# Altium integrated library Altera MAX 7000B.IntLib: 128 symbols (part 9 of 9)
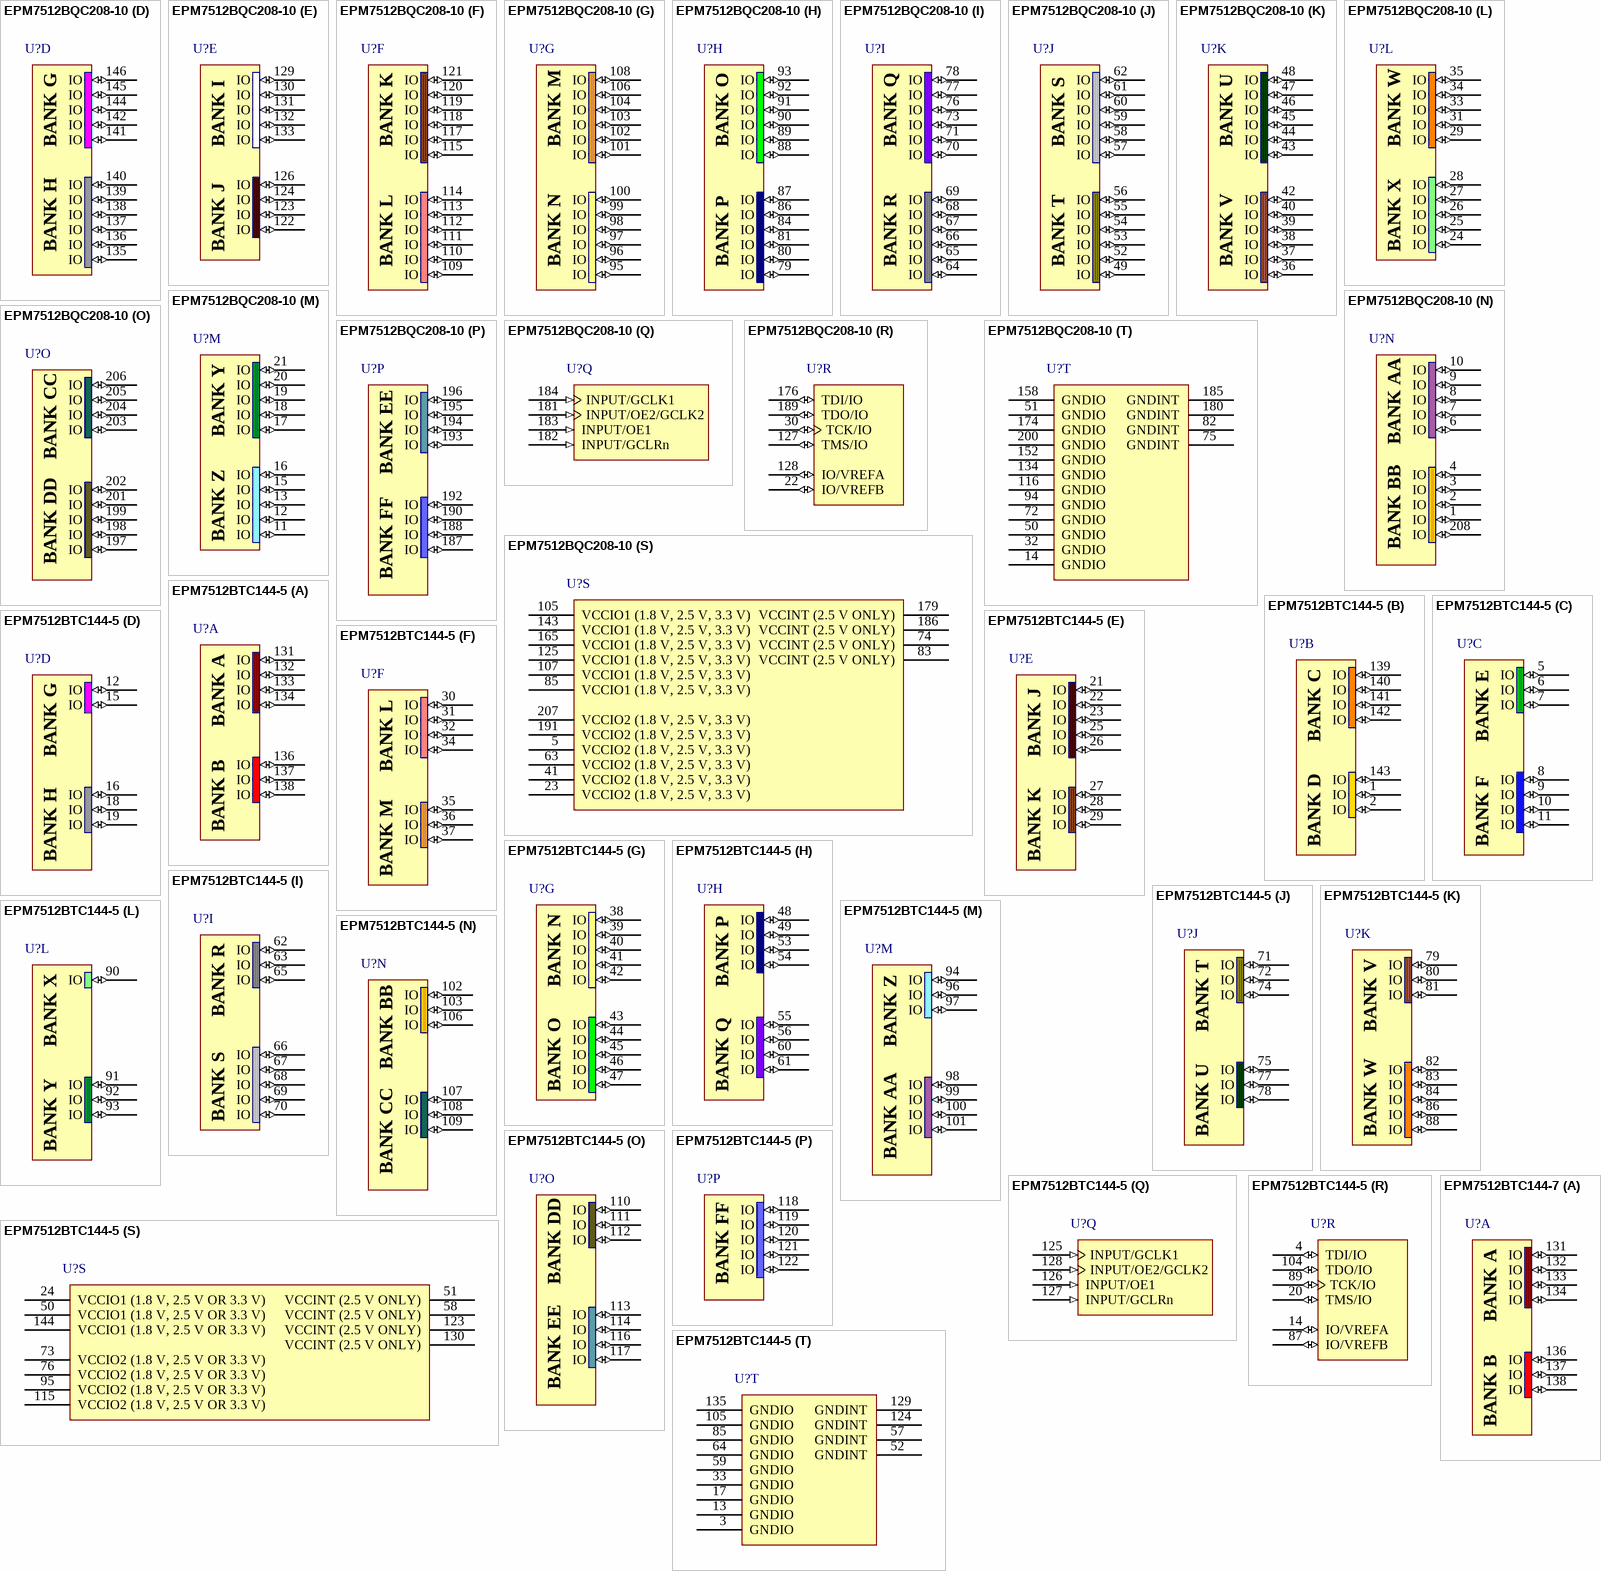
[diagram p54: symbols EPM7512BQC208-10 to EPM7512BTC144-7]

## EPM7512BQC208-10
designator U?
Max 7000B 2.5V CPLD, 512 Macrocells, 208-Pin PQFP, Speed Grade 10, Commercial Grade; Published: 23-Sep-2002; LatestRevisionDate: 13-Apr-2006; LatestRevisionNote: IPC-7351 Footprint Added.; DatasheetVersion: ver3.5, Sep-2005; PackageVersion: ver14.3, Jul-2006; PackageReference: PQFP208; Publisher: Altium Limited; PackageDescription: 208-Pin Plastic Quad Flat Pack (PQFP208); Code_JEDEC: MS-029-FA-1; ComponentLink1Description: Manufacturer Link; ComponentLink1URL: http://www.altera.com/products/devices/max7k/m7k-index.html; ComponentLink2Description: Datasheet; ComponentLink2URL: http://www.altera.com/literature/ds/m7000b.pdf; ComponentLink3Description: Packaging Specification; ComponentLink3URL: http://www.altera.com/literature/ds/dspkg.pdf
footprint PQFP208_N (Shrink QFP, 208-Leads, Body 28x28mm, Pitch 0.5mm, IPC Medium Density)
footprint PQFP208_L (Shrink QFP, 208-Leads, Body 28x28mm, Pitch 0.5mm, IPC High Density)
footprint PQFP208_M (Shrink QFP, 208-Leads, Body 28x28mm, Pitch 0.5mm, IPC Low Density)
3D model EPM7512B-PQFP208 (208-Pin Plastic Quad Flat Pack (PQFP208))
signal-integrity model 7kb (MAX 7000B)
part A pins: 169 IO (io), 170 IO (io), 171 IO (io), 172 IO (io), 173 IO (io), 175 IO (io), 177 IO (io), 178 IO (io)
part B pins: 159 IO (io), 160 IO (io), 161 IO (io), 162 IO (io), 163 IO (io), 164 IO (io), 166 IO (io), 167 IO (io), 168 IO (io)
part C pins: 147 IO (io), 148 IO (io), 149 IO (io), 150 IO (io), 151 IO (io), 153 IO (io), 154 IO (io), 155 IO (io), 156 IO (io), 157 IO (io)
part D pins: 135 IO (io), 136 IO (io), 137 IO (io), 138 IO (io), 139 IO (io), 140 IO (io), 141 IO (io), 142 IO (io), 144 IO (io), 145 IO (io), 146 IO (io)
part E pins: 122 IO (io), 123 IO (io), 124 IO (io), 126 IO (io), 129 IO (io), 130 IO (io), 131 IO (io), 132 IO (io), 133 IO (io)
part F pins: 109 IO (io), 110 IO (io), 111 IO (io), 112 IO (io), 113 IO (io), 114 IO (io), 115 IO (io), 117 IO (io), 118 IO (io), 119 IO (io), 120 IO (io), 121 IO (io)
part G pins: 95 IO (io), 96 IO (io), 97 IO (io), 98 IO (io), 99 IO (io), 100 IO (io), 101 IO (io), 102 IO (io), 103 IO (io), 104 IO (io), 106 IO (io), 108 IO (io)
part H pins: 79 IO (io), 80 IO (io), 81 IO (io), 84 IO (io), 86 IO (io), 87 IO (io), 88 IO (io), 89 IO (io), 90 IO (io), 91 IO (io), 92 IO (io), 93 IO (io)
part I pins: 64 IO (io), 65 IO (io), 66 IO (io), 67 IO (io), 68 IO (io), 69 IO (io), 70 IO (io), 71 IO (io), 73 IO (io), 76 IO (io), 77 IO (io), 78 IO (io)
part J pins: 49 IO (io), 52 IO (io), 53 IO (io), 54 IO (io), 55 IO (io), 56 IO (io), 57 IO (io), 58 IO (io), 59 IO (io), 60 IO (io), 61 IO (io), 62 IO (io)
part K pins: 36 IO (io), 37 IO (io), 38 IO (io), 39 IO (io), 40 IO (io), 42 IO (io), 43 IO (io), 44 IO (io), 45 IO (io), 46 IO (io), 47 IO (io), 48 IO (io)
part L pins: 24 IO (io), 25 IO (io), 26 IO (io), 27 IO (io), 28 IO (io), 29 IO (io), 31 IO (io), 33 IO (io), 34 IO (io), 35 IO (io)
part M pins: 11 IO (io), 12 IO (io), 13 IO (io), 15 IO (io), 16 IO (io), 17 IO (io), 18 IO (io), 19 IO (io), 20 IO (io), 21 IO (io)
part N pins: 1 IO (io), 2 IO (io), 3 IO (io), 4 IO (io), 6 IO (io), 7 IO (io), 8 IO (io), 9 IO (io), 10 IO (io), 208 IO (io)
part O pins: 197 IO (io), 198 IO (io), 199 IO (io), 201 IO (io), 202 IO (io), 203 IO (io), 204 IO (io), 205 IO (io), 206 IO (io)
part P pins: 187 IO (io), 188 IO (io), 190 IO (io), 192 IO (io), 193 IO (io), 194 IO (io), 195 IO (io), 196 IO (io)
part Q pins: 181 INPUT/OE2/GCLK2 (in), 182 INPUT/GCLRn (in), 183 INPUT/OE1 (in), 184 INPUT/GCLK1 (in)
part R pins: 22 IO/VREFB (io), 30 TCK/IO (io), 127 TMS/IO (io), 128 IO/VREFA (io), 176 TDI/IO (io), 189 TDO/IO (io)
part S pins: 5 VCCIO2 (1.8 V, 2.5 V, 3.3 V) (power), 23 VCCIO2 (1.8 V, 2.5 V, 3.3 V) (power), 41 VCCIO2 (1.8 V, 2.5 V, 3.3 V) (power), 63 VCCIO2 (1.8 V, 2.5 V, 3.3 V) (power), 74 VCCINT (2.5 V ONLY) (power), 83 VCCINT (2.5 V ONLY) (power), 85 VCCIO1 (1.8 V, 2.5 V, 3.3 V) (power), 105 VCCIO1 (1.8 V, 2.5 V, 3.3 V) (power), 107 VCCIO1 (1.8 V, 2.5 V, 3.3 V) (power), 125 VCCIO1 (1.8 V, 2.5 V, 3.3 V) (power), 143 VCCIO1 (1.8 V, 2.5 V, 3.3 V) (power), 165 VCCIO1 (1.8 V, 2.5 V, 3.3 V) (power), 179 VCCINT (2.5 V ONLY) (power), 186 VCCINT (2.5 V ONLY) (power), 191 VCCIO2 (1.8 V, 2.5 V, 3.3 V) (power), 207 VCCIO2 (1.8 V, 2.5 V, 3.3 V) (power)
part T pins: 14 GNDIO (power), 32 GNDIO (power), 50 GNDIO (power), 51 GNDIO (power), 72 GNDIO (power), 75 GNDINT (power), 82 GNDINT (power), 94 GNDIO (power), 116 GNDIO (power), 134 GNDIO (power), 152 GNDIO (power), 158 GNDIO (power), 174 GNDIO (power), 180 GNDINT (power), 185 GNDINT (power), 200 GNDIO (power)
part A text: BANK A; BANK B
part B text: BANK C; BANK D
part C text: BANK E; BANK F
part D text: BANK G; BANK H
part E text: BANK I; BANK J
part F text: BANK K; BANK L
part G text: BANK M; BANK N
part H text: BANK O; BANK P
part I text: BANK Q; BANK R
part J text: BANK S; BANK T
part K text: BANK U; BANK V
part L text: BANK W; BANK X
part M text: BANK Y; BANK Z
part N text: BANK AA; BANK BB
part O text: BANK CC; BANK DD
part P text: BANK EE; BANK FF

## EPM7512BTC144-5
designator U?
Max 7000B 2.5V CPLD, 512 Macrocells, 144-Pin TQFP, Speed Grade 5, Commercial Grade; Published: 17-Sep-2003; LatestRevisionDate: 13-Apr-2006; LatestRevisionNote: IPC-7351 Footprint Added.; DatasheetVersion: ver3.5, Sep-2005; PackageVersion: ver14.3, Jul-2006; PackageReference: TQFP144; Publisher: Altium Limited; PackageDescription: 144-Pin Plastic Thin Quad Flat Pack (TQFP144); Code_JEDEC: MS-026-BFB; ComponentLink1Description: Manufacturer Link; ComponentLink1URL: http://www.altera.com/products/devices/max7k/m7k-index.html; ComponentLink2Description: Datasheet; ComponentLink2URL: http://www.altera.com/literature/ds/m7000b.pdf; ComponentLink3Description: Packaging Specification; ComponentLink3URL: http://www.altera.com/literature/ds/dspkg.pdf
footprint TQFP144_N (Thin QFP, 144-Leads, Body 20x20mm, Pitch 0.5mm, IPC Medium Density)
footprint TQFP144_L (Thin QFP, 144-Leads, Body 20x20mm, Pitch 0.5mm, IPC High Density)
footprint TQFP144_M (Thin QFP, 144-Leads, Body 20x20mm, Pitch 0.5mm, IPC Low Density)
3D model EPM7512B-TQFP144 (144-Pin Plastic Thin Quad Flat Pack (TQFP144))
signal-integrity model 7kb (MAX 7000B)
part A pins: 131 IO (io), 132 IO (io), 133 IO (io), 134 IO (io), 136 IO (io), 137 IO (io), 138 IO (io)
part B pins: 1 IO (io), 2 IO (io), 139 IO (io), 140 IO (io), 141 IO (io), 142 IO (io), 143 IO (io)
part C pins: 5 IO (io), 6 IO (io), 7 IO (io), 8 IO (io), 9 IO (io), 10 IO (io), 11 IO (io)
part D pins: 12 IO (io), 15 IO (io), 16 IO (io), 18 IO (io), 19 IO (io)
part E pins: 21 IO (io), 22 IO (io), 23 IO (io), 25 IO (io), 26 IO (io), 27 IO (io), 28 IO (io), 29 IO (io)
part F pins: 30 IO (io), 31 IO (io), 32 IO (io), 34 IO (io), 35 IO (io), 36 IO (io), 37 IO (io)
part G pins: 38 IO (io), 39 IO (io), 40 IO (io), 41 IO (io), 42 IO (io), 43 IO (io), 44 IO (io), 45 IO (io), 46 IO (io), 47 IO (io)
part H pins: 48 IO (io), 49 IO (io), 53 IO (io), 54 IO (io), 55 IO (io), 56 IO (io), 60 IO (io), 61 IO (io)
part I pins: 62 IO (io), 63 IO (io), 65 IO (io), 66 IO (io), 67 IO (io), 68 IO (io), 69 IO (io), 70 IO (io)
part J pins: 71 IO (io), 72 IO (io), 74 IO (io), 75 IO (io), 77 IO (io), 78 IO (io)
part K pins: 79 IO (io), 80 IO (io), 81 IO (io), 82 IO (io), 83 IO (io), 84 IO (io), 86 IO (io), 88 IO (io)
part L pins: 90 IO (io), 91 IO (io), 92 IO (io), 93 IO (io)
part M pins: 94 IO (io), 96 IO (io), 97 IO (io), 98 IO (io), 99 IO (io), 100 IO (io), 101 IO (io)
part N pins: 102 IO (io), 103 IO (io), 106 IO (io), 107 IO (io), 108 IO (io), 109 IO (io)
part O pins: 110 IO (io), 111 IO (io), 112 IO (io), 113 IO (io), 114 IO (io), 116 IO (io), 117 IO (io)
part P pins: 118 IO (io), 119 IO (io), 120 IO (io), 121 IO (io), 122 IO (io)
part Q pins: 125 INPUT/GCLK1 (in), 126 INPUT/OE1 (in), 127 INPUT/GCLRn (in), 128 INPUT/OE2/GCLK2 (in)
part R pins: 4 TDI/IO (io), 14 IO/VREFA (io), 20 TMS/IO (io), 87 IO/VREFB (io), 89 TCK/IO (io), 104 TDO/IO (io)
part S pins: 24 VCCIO1 (1.8 V, 2.5 V OR 3.3 V) (power), 50 VCCIO1 (1.8 V, 2.5 V OR 3.3 V) (power), 51 VCCINT (2.5 V ONLY) (power), 58 VCCINT (2.5 V ONLY) (power), 73 VCCIO2 (1.8 V, 2.5 V OR 3.3 V) (power), 76 VCCIO2 (1.8 V, 2.5 V OR 3.3 V) (power), 95 VCCIO2 (1.8 V, 2.5 V OR 3.3 V) (power), 115 VCCIO2 (1.8 V, 2.5 V OR 3.3 V) (power), 123 VCCINT (2.5 V ONLY) (power), 130 VCCINT (2.5 V ONLY) (power), 144 VCCIO1 (1.8 V, 2.5 V OR 3.3 V) (power)
part T pins: 3 GNDIO (power), 13 GNDIO (power), 17 GNDIO (power), 33 GNDIO (power), 52 GNDINT (power), 57 GNDINT (power), 59 GNDIO (power), 64 GNDIO (power), 85 GNDIO (power), 105 GNDIO (power), 124 GNDINT (power), 129 GNDINT (power), 135 GNDIO (power)
part A text: BANK A; BANK B
part B text: BANK C; BANK D
part C text: BANK E; BANK F
part D text: BANK G; BANK H
part E text: BANK J; BANK K
part F text: BANK L; BANK M
part G text: BANK N; BANK O
part H text: BANK P; BANK Q
part I text: BANK R; BANK S
part J text: BANK T; BANK U
part K text: BANK V; BANK W
part L text: BANK X; BANK Y
part M text: BANK Z; BANK AA
part N text: BANK BB; BANK CC
part O text: BANK DD; BANK EE
part P text: BANK FF

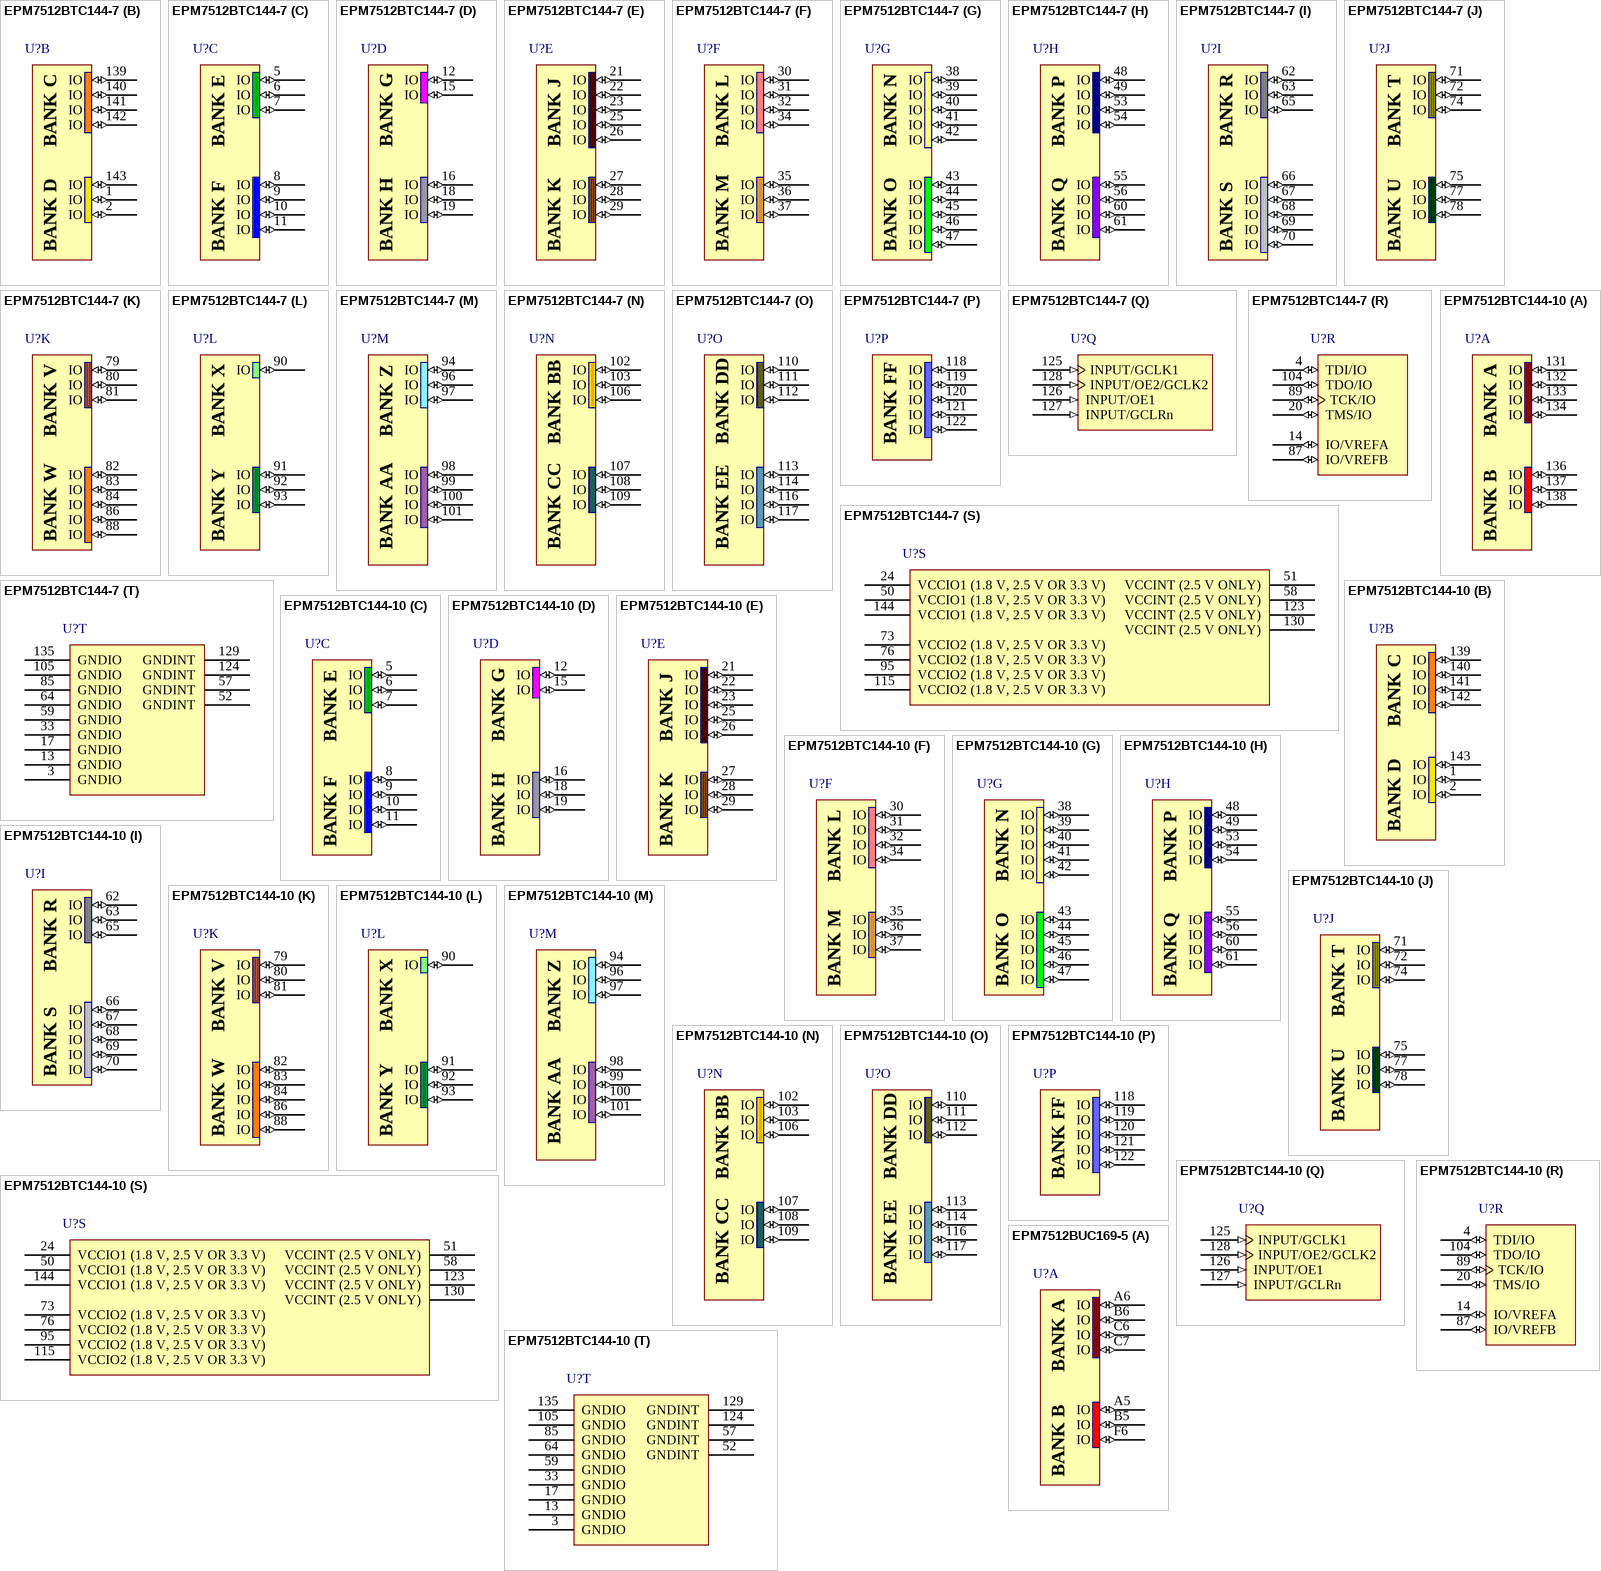
[diagram p44: symbols EPM7512BTC144-7 to EPM7512BUC169-5]

## EPM7512BTC144-7
designator U?
Max 7000B 2.5V CPLD, 512 Macrocells, 144-Pin TQFP, Speed Grade 7, Commercial Grade; Published: 17-Sep-2003; LatestRevisionDate: 13-Apr-2006; LatestRevisionNote: IPC-7351 Footprint Added.; DatasheetVersion: ver3.5, Sep-2005; PackageVersion: ver14.3, Jul-2006; PackageReference: TQFP144; Publisher: Altium Limited; PackageDescription: 144-Pin Plastic Thin Quad Flat Pack (TQFP144); Code_JEDEC: MS-026-BFB; ComponentLink1Description: Manufacturer Link; ComponentLink1URL: http://www.altera.com/products/devices/max7k/m7k-index.html; ComponentLink2Description: Datasheet; ComponentLink2URL: http://www.altera.com/literature/ds/m7000b.pdf; ComponentLink3Description: Packaging Specification; ComponentLink3URL: http://www.altera.com/literature/ds/dspkg.pdf
footprint TQFP144_N (Thin QFP, 144-Leads, Body 20x20mm, Pitch 0.5mm, IPC Medium Density)
footprint TQFP144_L (Thin QFP, 144-Leads, Body 20x20mm, Pitch 0.5mm, IPC High Density)
footprint TQFP144_M (Thin QFP, 144-Leads, Body 20x20mm, Pitch 0.5mm, IPC Low Density)
3D model EPM7512B-TQFP144 (144-Pin Plastic Thin Quad Flat Pack (TQFP144))
signal-integrity model 7kb (MAX 7000B)
part A pins: 131 IO (io), 132 IO (io), 133 IO (io), 134 IO (io), 136 IO (io), 137 IO (io), 138 IO (io)
part B pins: 1 IO (io), 2 IO (io), 139 IO (io), 140 IO (io), 141 IO (io), 142 IO (io), 143 IO (io)
part C pins: 5 IO (io), 6 IO (io), 7 IO (io), 8 IO (io), 9 IO (io), 10 IO (io), 11 IO (io)
part D pins: 12 IO (io), 15 IO (io), 16 IO (io), 18 IO (io), 19 IO (io)
part E pins: 21 IO (io), 22 IO (io), 23 IO (io), 25 IO (io), 26 IO (io), 27 IO (io), 28 IO (io), 29 IO (io)
part F pins: 30 IO (io), 31 IO (io), 32 IO (io), 34 IO (io), 35 IO (io), 36 IO (io), 37 IO (io)
part G pins: 38 IO (io), 39 IO (io), 40 IO (io), 41 IO (io), 42 IO (io), 43 IO (io), 44 IO (io), 45 IO (io), 46 IO (io), 47 IO (io)
part H pins: 48 IO (io), 49 IO (io), 53 IO (io), 54 IO (io), 55 IO (io), 56 IO (io), 60 IO (io), 61 IO (io)
part I pins: 62 IO (io), 63 IO (io), 65 IO (io), 66 IO (io), 67 IO (io), 68 IO (io), 69 IO (io), 70 IO (io)
part J pins: 71 IO (io), 72 IO (io), 74 IO (io), 75 IO (io), 77 IO (io), 78 IO (io)
part K pins: 79 IO (io), 80 IO (io), 81 IO (io), 82 IO (io), 83 IO (io), 84 IO (io), 86 IO (io), 88 IO (io)
part L pins: 90 IO (io), 91 IO (io), 92 IO (io), 93 IO (io)
part M pins: 94 IO (io), 96 IO (io), 97 IO (io), 98 IO (io), 99 IO (io), 100 IO (io), 101 IO (io)
part N pins: 102 IO (io), 103 IO (io), 106 IO (io), 107 IO (io), 108 IO (io), 109 IO (io)
part O pins: 110 IO (io), 111 IO (io), 112 IO (io), 113 IO (io), 114 IO (io), 116 IO (io), 117 IO (io)
part P pins: 118 IO (io), 119 IO (io), 120 IO (io), 121 IO (io), 122 IO (io)
part Q pins: 125 INPUT/GCLK1 (in), 126 INPUT/OE1 (in), 127 INPUT/GCLRn (in), 128 INPUT/OE2/GCLK2 (in)
part R pins: 4 TDI/IO (io), 14 IO/VREFA (io), 20 TMS/IO (io), 87 IO/VREFB (io), 89 TCK/IO (io), 104 TDO/IO (io)
part S pins: 24 VCCIO1 (1.8 V, 2.5 V OR 3.3 V) (power), 50 VCCIO1 (1.8 V, 2.5 V OR 3.3 V) (power), 51 VCCINT (2.5 V ONLY) (power), 58 VCCINT (2.5 V ONLY) (power), 73 VCCIO2 (1.8 V, 2.5 V OR 3.3 V) (power), 76 VCCIO2 (1.8 V, 2.5 V OR 3.3 V) (power), 95 VCCIO2 (1.8 V, 2.5 V OR 3.3 V) (power), 115 VCCIO2 (1.8 V, 2.5 V OR 3.3 V) (power), 123 VCCINT (2.5 V ONLY) (power), 130 VCCINT (2.5 V ONLY) (power), 144 VCCIO1 (1.8 V, 2.5 V OR 3.3 V) (power)
part T pins: 3 GNDIO (power), 13 GNDIO (power), 17 GNDIO (power), 33 GNDIO (power), 52 GNDINT (power), 57 GNDINT (power), 59 GNDIO (power), 64 GNDIO (power), 85 GNDIO (power), 105 GNDIO (power), 124 GNDINT (power), 129 GNDINT (power), 135 GNDIO (power)
part A text: BANK A; BANK B
part B text: BANK C; BANK D
part C text: BANK E; BANK F
part D text: BANK G; BANK H
part E text: BANK J; BANK K
part F text: BANK L; BANK M
part G text: BANK N; BANK O
part H text: BANK P; BANK Q
part I text: BANK R; BANK S
part J text: BANK T; BANK U
part K text: BANK V; BANK W
part L text: BANK X; BANK Y
part M text: BANK Z; BANK AA
part N text: BANK BB; BANK CC
part O text: BANK DD; BANK EE
part P text: BANK FF

## EPM7512BTC144-10
designator U?
Max 7000B 2.5V CPLD, 512 Macrocells, 144-Pin TQFP, Speed Grade 10, Commercial Grade; Published: 17-Sep-2003; LatestRevisionDate: 13-Apr-2006; LatestRevisionNote: IPC-7351 Footprint Added.; DatasheetVersion: ver3.5, Sep-2005; PackageVersion: ver14.3, Jul-2006; PackageReference: TQFP144; Publisher: Altium Limited; PackageDescription: 144-Pin Plastic Thin Quad Flat Pack (TQFP144); Code_JEDEC: MS-026-BFB; ComponentLink1Description: Manufacturer Link; ComponentLink1URL: http://www.altera.com/products/devices/max7k/m7k-index.html; ComponentLink2Description: Datasheet; ComponentLink2URL: http://www.altera.com/literature/ds/m7000b.pdf; ComponentLink3Description: Packaging Specification; ComponentLink3URL: http://www.altera.com/literature/ds/dspkg.pdf
footprint TQFP144_N (Thin QFP, 144-Leads, Body 20x20mm, Pitch 0.5mm, IPC Medium Density)
footprint TQFP144_L (Thin QFP, 144-Leads, Body 20x20mm, Pitch 0.5mm, IPC High Density)
footprint TQFP144_M (Thin QFP, 144-Leads, Body 20x20mm, Pitch 0.5mm, IPC Low Density)
3D model EPM7512B-TQFP144 (144-Pin Plastic Thin Quad Flat Pack (TQFP144))
signal-integrity model 7kb (MAX 7000B)
part A pins: 131 IO (io), 132 IO (io), 133 IO (io), 134 IO (io), 136 IO (io), 137 IO (io), 138 IO (io)
part B pins: 1 IO (io), 2 IO (io), 139 IO (io), 140 IO (io), 141 IO (io), 142 IO (io), 143 IO (io)
part C pins: 5 IO (io), 6 IO (io), 7 IO (io), 8 IO (io), 9 IO (io), 10 IO (io), 11 IO (io)
part D pins: 12 IO (io), 15 IO (io), 16 IO (io), 18 IO (io), 19 IO (io)
part E pins: 21 IO (io), 22 IO (io), 23 IO (io), 25 IO (io), 26 IO (io), 27 IO (io), 28 IO (io), 29 IO (io)
part F pins: 30 IO (io), 31 IO (io), 32 IO (io), 34 IO (io), 35 IO (io), 36 IO (io), 37 IO (io)
part G pins: 38 IO (io), 39 IO (io), 40 IO (io), 41 IO (io), 42 IO (io), 43 IO (io), 44 IO (io), 45 IO (io), 46 IO (io), 47 IO (io)
part H pins: 48 IO (io), 49 IO (io), 53 IO (io), 54 IO (io), 55 IO (io), 56 IO (io), 60 IO (io), 61 IO (io)
part I pins: 62 IO (io), 63 IO (io), 65 IO (io), 66 IO (io), 67 IO (io), 68 IO (io), 69 IO (io), 70 IO (io)
part J pins: 71 IO (io), 72 IO (io), 74 IO (io), 75 IO (io), 77 IO (io), 78 IO (io)
part K pins: 79 IO (io), 80 IO (io), 81 IO (io), 82 IO (io), 83 IO (io), 84 IO (io), 86 IO (io), 88 IO (io)
part L pins: 90 IO (io), 91 IO (io), 92 IO (io), 93 IO (io)
part M pins: 94 IO (io), 96 IO (io), 97 IO (io), 98 IO (io), 99 IO (io), 100 IO (io), 101 IO (io)
part N pins: 102 IO (io), 103 IO (io), 106 IO (io), 107 IO (io), 108 IO (io), 109 IO (io)
part O pins: 110 IO (io), 111 IO (io), 112 IO (io), 113 IO (io), 114 IO (io), 116 IO (io), 117 IO (io)
part P pins: 118 IO (io), 119 IO (io), 120 IO (io), 121 IO (io), 122 IO (io)
part Q pins: 125 INPUT/GCLK1 (in), 126 INPUT/OE1 (in), 127 INPUT/GCLRn (in), 128 INPUT/OE2/GCLK2 (in)
part R pins: 4 TDI/IO (io), 14 IO/VREFA (io), 20 TMS/IO (io), 87 IO/VREFB (io), 89 TCK/IO (io), 104 TDO/IO (io)
part S pins: 24 VCCIO1 (1.8 V, 2.5 V OR 3.3 V) (power), 50 VCCIO1 (1.8 V, 2.5 V OR 3.3 V) (power), 51 VCCINT (2.5 V ONLY) (power), 58 VCCINT (2.5 V ONLY) (power), 73 VCCIO2 (1.8 V, 2.5 V OR 3.3 V) (power), 76 VCCIO2 (1.8 V, 2.5 V OR 3.3 V) (power), 95 VCCIO2 (1.8 V, 2.5 V OR 3.3 V) (power), 115 VCCIO2 (1.8 V, 2.5 V OR 3.3 V) (power), 123 VCCINT (2.5 V ONLY) (power), 130 VCCINT (2.5 V ONLY) (power), 144 VCCIO1 (1.8 V, 2.5 V OR 3.3 V) (power)
part T pins: 3 GNDIO (power), 13 GNDIO (power), 17 GNDIO (power), 33 GNDIO (power), 52 GNDINT (power), 57 GNDINT (power), 59 GNDIO (power), 64 GNDIO (power), 85 GNDIO (power), 105 GNDIO (power), 124 GNDINT (power), 129 GNDINT (power), 135 GNDIO (power)
part A text: BANK A; BANK B
part B text: BANK C; BANK D
part C text: BANK E; BANK F
part D text: BANK G; BANK H
part E text: BANK J; BANK K
part F text: BANK L; BANK M
part G text: BANK N; BANK O
part H text: BANK P; BANK Q
part I text: BANK R; BANK S
part J text: BANK T; BANK U
part K text: BANK V; BANK W
part L text: BANK X; BANK Y
part M text: BANK Z; BANK AA
part N text: BANK BB; BANK CC
part O text: BANK DD; BANK EE
part P text: BANK FF

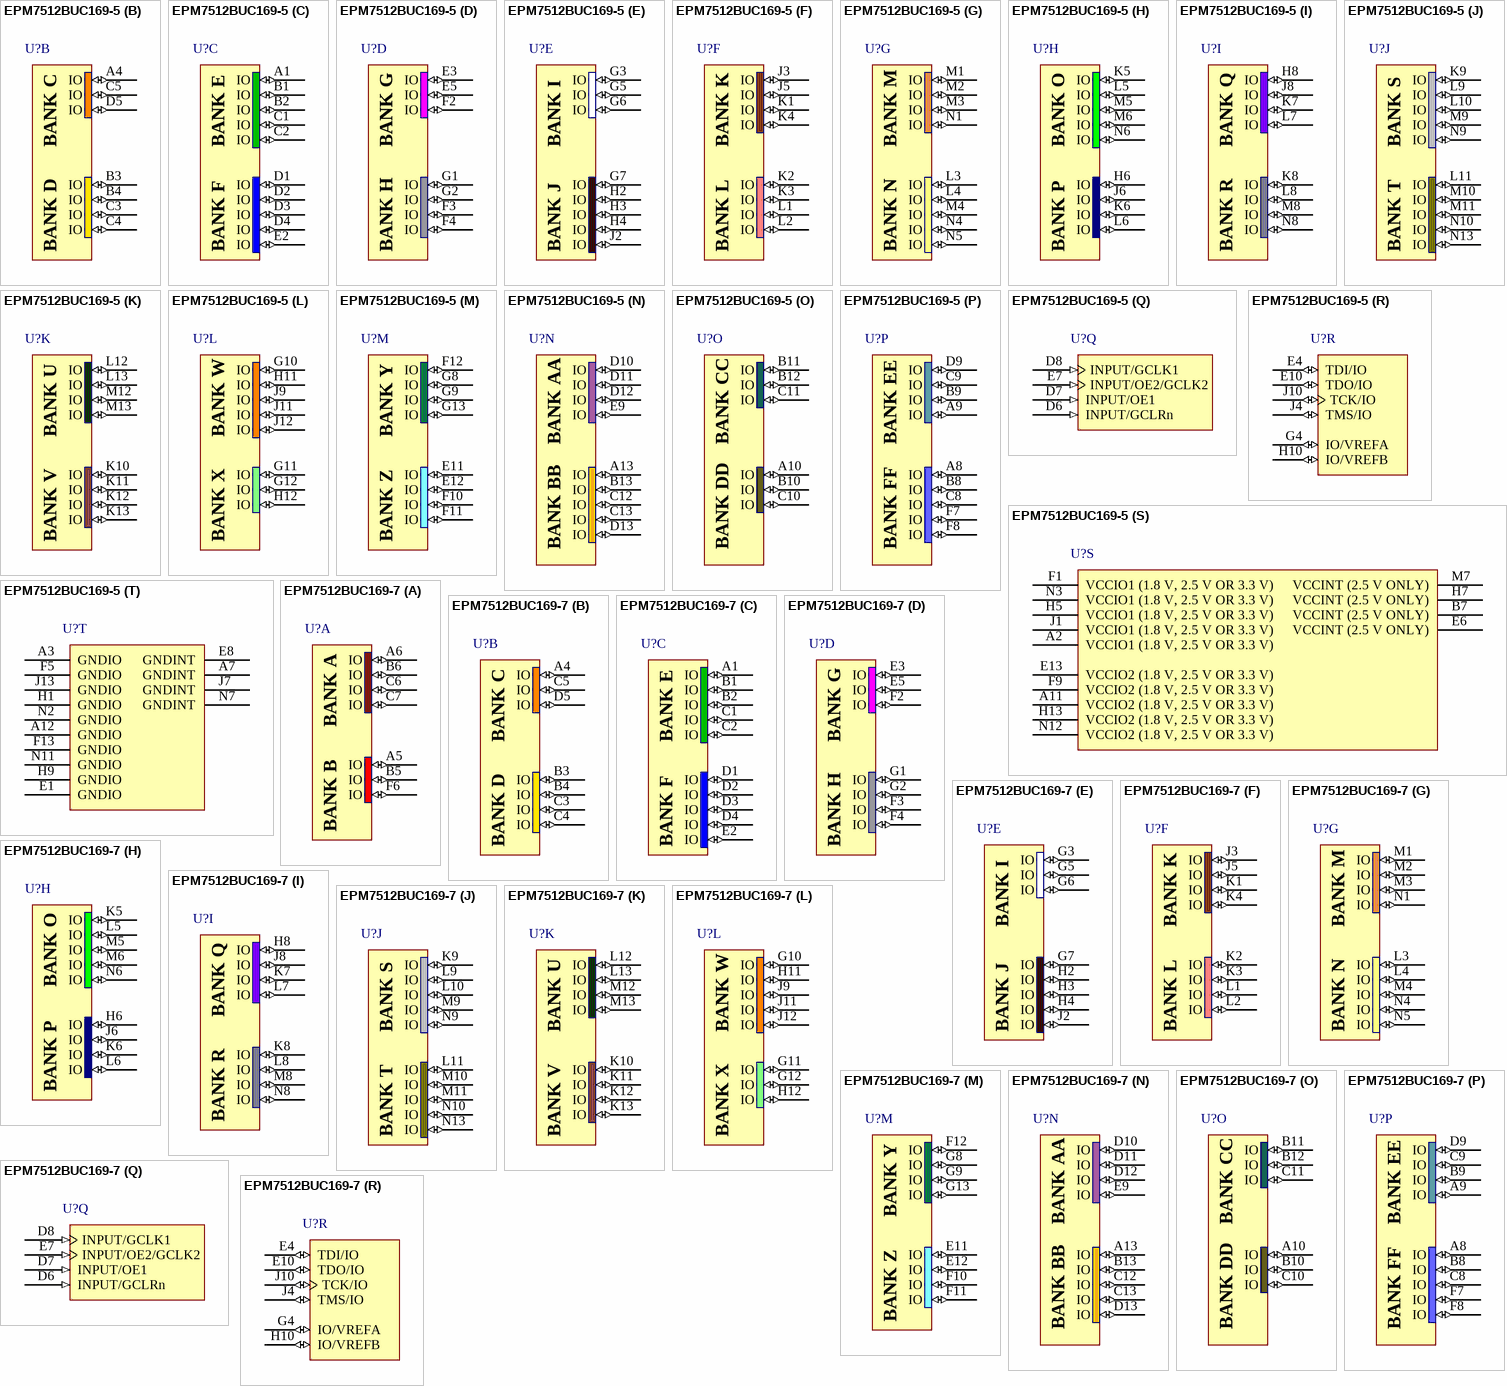
[diagram p45: symbols EPM7512BUC169-5 to EPM7512BUC169-7]

## EPM7512BUC169-5
designator U?
Max 7000B 2.5V CPLD, 512 Macrocells, 169-Pin UFBGA, Speed Grade 5, Commercial Grade; Published: 17-Sep-2003; LatestRevisionDate: 13-Apr-2006; LatestRevisionNote: IPC-7351 Footprint Added.; DatasheetVersion: ver3.5, Sep-2005; PackageVersion: ver14.3, Jul-2006; PackageReference: UBGA169; Publisher: Altium Limited; PackageDescription: 169-Ball Ultra FineLine Ball Grid Array (UBGA169); Code_JEDEC: MO-216-BAF-1; ComponentLink1Description: Manufacturer Link; ComponentLink1URL: http://www.altera.com/products/devices/max7k/m7k-index.html; ComponentLink2Description: Datasheet; ComponentLink2URL: http://www.altera.com/literature/ds/m7000b.pdf; ComponentLink3Description: Packaging Specification; ComponentLink3URL: http://www.altera.com/literature/ds/dspkg.pdf
footprint UBGA169 (BGA, 169-Leads, Body 11x11mm, Pitch 0.8mm)
3D model EPM7512B-UBGA169 (169-Ball Ultra FineLine Ball Grid Array (UBGA169))
signal-integrity model 7kb (MAX 7000B)
part A pins: A5 IO (io), A6 IO (io), B5 IO (io), B6 IO (io), C6 IO (io), C7 IO (io), F6 IO (io)
part B pins: A4 IO (io), B3 IO (io), B4 IO (io), C3 IO (io), C4 IO (io), C5 IO (io), D5 IO (io)
part C pins: A1 IO (io), B1 IO (io), B2 IO (io), C1 IO (io), C2 IO (io), D1 IO (io), D2 IO (io), D3 IO (io), D4 IO (io), E2 IO (io)
part D pins: E3 IO (io), E5 IO (io), F2 IO (io), F3 IO (io), F4 IO (io), G1 IO (io), G2 IO (io)
part E pins: G3 IO (io), G5 IO (io), G6 IO (io), G7 IO (io), H2 IO (io), H3 IO (io), H4 IO (io), J2 IO (io)
part F pins: J3 IO (io), J5 IO (io), K1 IO (io), K2 IO (io), K3 IO (io), K4 IO (io), L1 IO (io), L2 IO (io)
part G pins: L3 IO (io), L4 IO (io), M1 IO (io), M2 IO (io), M3 IO (io), M4 IO (io), N1 IO (io), N4 IO (io), N5 IO (io)
part H pins: H6 IO (io), J6 IO (io), K5 IO (io), K6 IO (io), L5 IO (io), L6 IO (io), M5 IO (io), M6 IO (io), N6 IO (io)
part I pins: H8 IO (io), J8 IO (io), K7 IO (io), K8 IO (io), L7 IO (io), L8 IO (io), M8 IO (io), N8 IO (io)
part J pins: K9 IO (io), L9 IO (io), L10 IO (io), L11 IO (io), M9 IO (io), M10 IO (io), M11 IO (io), N9 IO (io), N10 IO (io), N13 IO (io)
part K pins: K10 IO (io), K11 IO (io), K12 IO (io), K13 IO (io), L12 IO (io), L13 IO (io), M12 IO (io), M13 IO (io)
part L pins: G10 IO (io), G11 IO (io), G12 IO (io), H11 IO (io), H12 IO (io), J9 IO (io), J11 IO (io), J12 IO (io)
part M pins: E11 IO (io), E12 IO (io), F10 IO (io), F11 IO (io), F12 IO (io), G8 IO (io), G9 IO (io), G13 IO (io)
part N pins: A13 IO (io), B13 IO (io), C12 IO (io), C13 IO (io), D10 IO (io), D11 IO (io), D12 IO (io), D13 IO (io), E9 IO (io)
part O pins: A10 IO (io), B10 IO (io), B11 IO (io), B12 IO (io), C10 IO (io), C11 IO (io)
part P pins: A8 IO (io), A9 IO (io), B8 IO (io), B9 IO (io), C8 IO (io), C9 IO (io), D9 IO (io), F7 IO (io), F8 IO (io)
part Q pins: D6 INPUT/GCLRn (in), D7 INPUT/OE1 (in), D8 INPUT/GCLK1 (in), E7 INPUT/OE2/GCLK2 (in)
part R pins: E4 TDI/IO (io), E10 TDO/IO (io), G4 IO/VREFA (io), H10 IO/VREFB (io), J4 TMS/IO (io), J10 TCK/IO (io)
part S pins: A2 VCCIO1 (1.8 V, 2.5 V OR 3.3 V) (power), A11 VCCIO2 (1.8 V, 2.5 V OR 3.3 V) (power), B7 VCCINT (2.5 V ONLY) (power), E6 VCCINT (2.5 V ONLY) (power), E13 VCCIO2 (1.8 V, 2.5 V OR 3.3 V) (power), F1 VCCIO1 (1.8 V, 2.5 V OR 3.3 V) (power), F9 VCCIO2 (1.8 V, 2.5 V OR 3.3 V) (power), H5 VCCIO1 (1.8 V, 2.5 V OR 3.3 V) (power), H7 VCCINT (2.5 V ONLY) (power), H13 VCCIO2 (1.8 V, 2.5 V OR 3.3 V) (power), J1 VCCIO1 (1.8 V, 2.5 V OR 3.3 V) (power), M7 VCCINT (2.5 V ONLY) (power), N3 VCCIO1 (1.8 V, 2.5 V OR 3.3 V) (power), N12 VCCIO2 (1.8 V, 2.5 V OR 3.3 V) (power)
part T pins: A3 GNDIO (power), A7 GNDINT (power), A12 GNDIO (power), E1 GNDIO (power), E8 GNDINT (power), F5 GNDIO (power), F13 GNDIO (power), H1 GNDIO (power), H9 GNDIO (power), J7 GNDINT (power), J13 GNDIO (power), N2 GNDIO (power), N7 GNDINT (power), N11 GNDIO (power)
part A text: BANK A; BANK B
part B text: BANK C; BANK D
part C text: BANK E; BANK F
part D text: BANK G; BANK H
part E text: BANK I; BANK J
part F text: BANK K; BANK L
part G text: BANK M; BANK N
part H text: BANK O; BANK P
part I text: BANK Q; BANK R
part J text: BANK S; BANK T
part K text: BANK U; BANK V
part L text: BANK W; BANK X
part M text: BANK Y; BANK Z
part N text: BANK AA; BANK BB
part O text: BANK CC; BANK DD
part P text: BANK EE; BANK FF

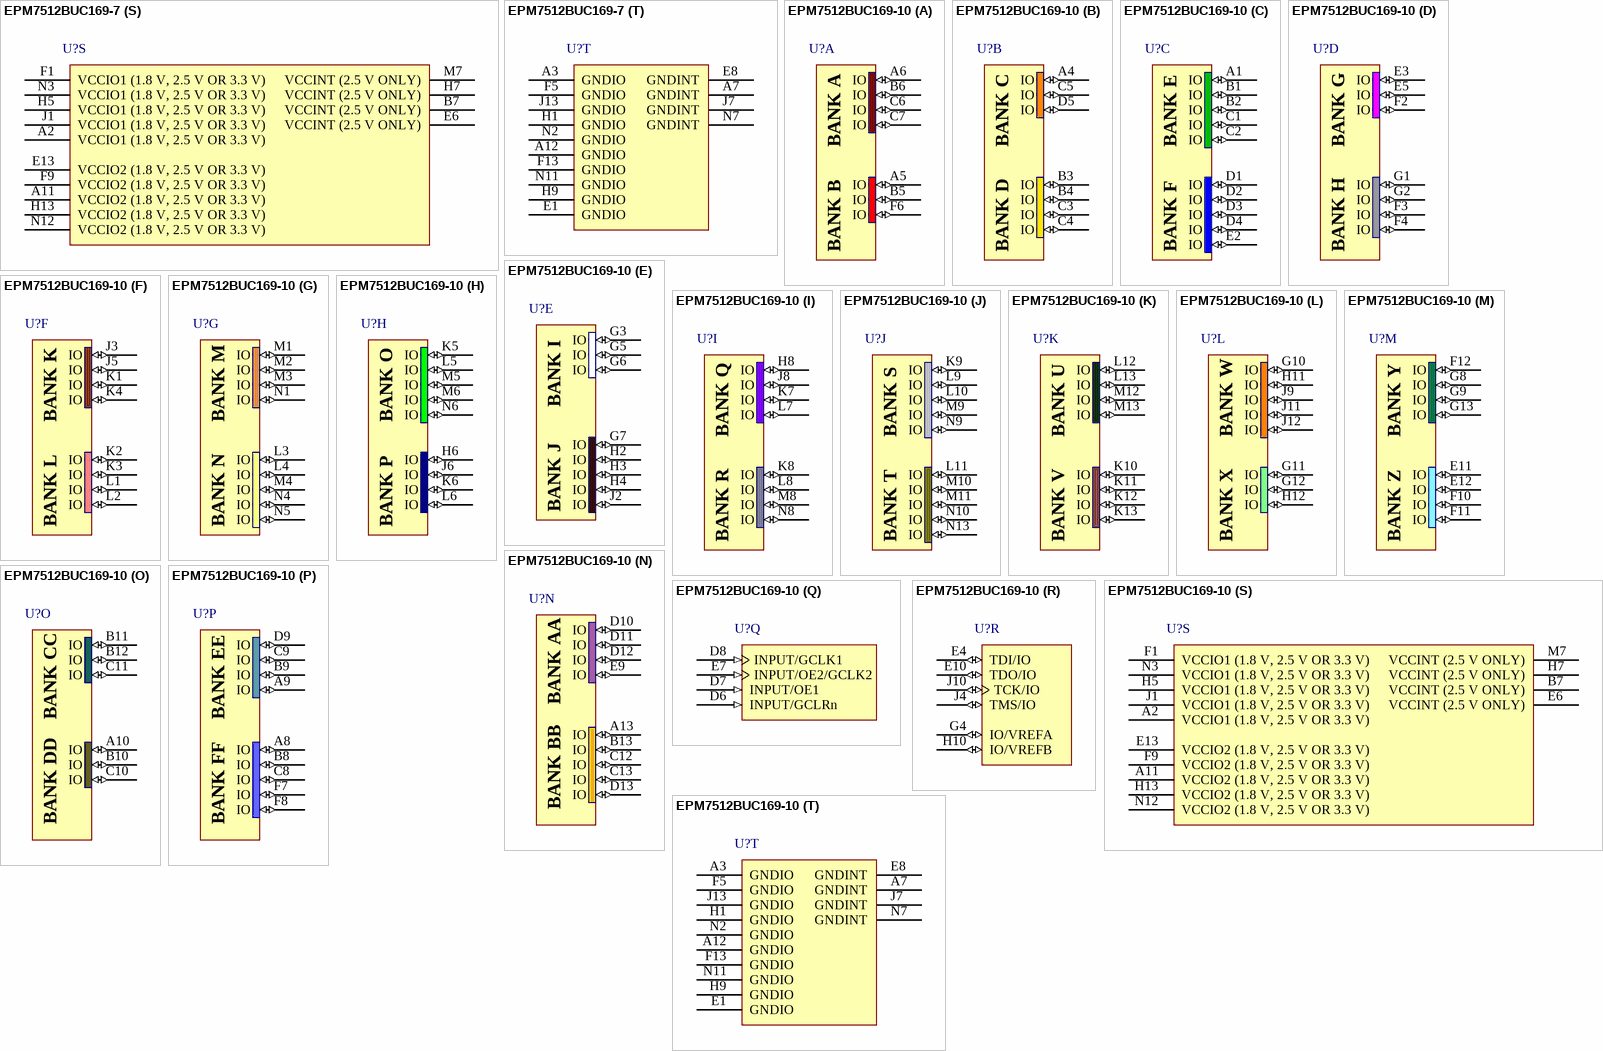
[diagram p46: symbols EPM7512BUC169-7 to EPM7512BUC169-10]

## EPM7512BUC169-7
designator U?
Max 7000B 2.5V CPLD, 512 Macrocells, 169-Pin UFBGA, Speed Grade 7, Commercial Grade; Published: 17-Sep-2003; LatestRevisionDate: 13-Apr-2006; LatestRevisionNote: IPC-7351 Footprint Added.; DatasheetVersion: ver3.5, Sep-2005; PackageVersion: ver14.3, Jul-2006; PackageReference: UBGA169; Publisher: Altium Limited; PackageDescription: 169-Ball Ultra FineLine Ball Grid Array (UBGA169); Code_JEDEC: MO-216-BAF-1; ComponentLink1Description: Manufacturer Link; ComponentLink1URL: http://www.altera.com/products/devices/max7k/m7k-index.html; ComponentLink2Description: Datasheet; ComponentLink2URL: http://www.altera.com/literature/ds/m7000b.pdf; ComponentLink3Description: Packaging Specification; ComponentLink3URL: http://www.altera.com/literature/ds/dspkg.pdf
footprint UBGA169 (BGA, 169-Leads, Body 11x11mm, Pitch 0.8mm)
3D model EPM7512B-UBGA169 (169-Ball Ultra FineLine Ball Grid Array (UBGA169))
signal-integrity model 7kb (MAX 7000B)
part A pins: A5 IO (io), A6 IO (io), B5 IO (io), B6 IO (io), C6 IO (io), C7 IO (io), F6 IO (io)
part B pins: A4 IO (io), B3 IO (io), B4 IO (io), C3 IO (io), C4 IO (io), C5 IO (io), D5 IO (io)
part C pins: A1 IO (io), B1 IO (io), B2 IO (io), C1 IO (io), C2 IO (io), D1 IO (io), D2 IO (io), D3 IO (io), D4 IO (io), E2 IO (io)
part D pins: E3 IO (io), E5 IO (io), F2 IO (io), F3 IO (io), F4 IO (io), G1 IO (io), G2 IO (io)
part E pins: G3 IO (io), G5 IO (io), G6 IO (io), G7 IO (io), H2 IO (io), H3 IO (io), H4 IO (io), J2 IO (io)
part F pins: J3 IO (io), J5 IO (io), K1 IO (io), K2 IO (io), K3 IO (io), K4 IO (io), L1 IO (io), L2 IO (io)
part G pins: L3 IO (io), L4 IO (io), M1 IO (io), M2 IO (io), M3 IO (io), M4 IO (io), N1 IO (io), N4 IO (io), N5 IO (io)
part H pins: H6 IO (io), J6 IO (io), K5 IO (io), K6 IO (io), L5 IO (io), L6 IO (io), M5 IO (io), M6 IO (io), N6 IO (io)
part I pins: H8 IO (io), J8 IO (io), K7 IO (io), K8 IO (io), L7 IO (io), L8 IO (io), M8 IO (io), N8 IO (io)
part J pins: K9 IO (io), L9 IO (io), L10 IO (io), L11 IO (io), M9 IO (io), M10 IO (io), M11 IO (io), N9 IO (io), N10 IO (io), N13 IO (io)
part K pins: K10 IO (io), K11 IO (io), K12 IO (io), K13 IO (io), L12 IO (io), L13 IO (io), M12 IO (io), M13 IO (io)
part L pins: G10 IO (io), G11 IO (io), G12 IO (io), H11 IO (io), H12 IO (io), J9 IO (io), J11 IO (io), J12 IO (io)
part M pins: E11 IO (io), E12 IO (io), F10 IO (io), F11 IO (io), F12 IO (io), G8 IO (io), G9 IO (io), G13 IO (io)
part N pins: A13 IO (io), B13 IO (io), C12 IO (io), C13 IO (io), D10 IO (io), D11 IO (io), D12 IO (io), D13 IO (io), E9 IO (io)
part O pins: A10 IO (io), B10 IO (io), B11 IO (io), B12 IO (io), C10 IO (io), C11 IO (io)
part P pins: A8 IO (io), A9 IO (io), B8 IO (io), B9 IO (io), C8 IO (io), C9 IO (io), D9 IO (io), F7 IO (io), F8 IO (io)
part Q pins: D6 INPUT/GCLRn (in), D7 INPUT/OE1 (in), D8 INPUT/GCLK1 (in), E7 INPUT/OE2/GCLK2 (in)
part R pins: E4 TDI/IO (io), E10 TDO/IO (io), G4 IO/VREFA (io), H10 IO/VREFB (io), J4 TMS/IO (io), J10 TCK/IO (io)
part S pins: A2 VCCIO1 (1.8 V, 2.5 V OR 3.3 V) (power), A11 VCCIO2 (1.8 V, 2.5 V OR 3.3 V) (power), B7 VCCINT (2.5 V ONLY) (power), E6 VCCINT (2.5 V ONLY) (power), E13 VCCIO2 (1.8 V, 2.5 V OR 3.3 V) (power), F1 VCCIO1 (1.8 V, 2.5 V OR 3.3 V) (power), F9 VCCIO2 (1.8 V, 2.5 V OR 3.3 V) (power), H5 VCCIO1 (1.8 V, 2.5 V OR 3.3 V) (power), H7 VCCINT (2.5 V ONLY) (power), H13 VCCIO2 (1.8 V, 2.5 V OR 3.3 V) (power), J1 VCCIO1 (1.8 V, 2.5 V OR 3.3 V) (power), M7 VCCINT (2.5 V ONLY) (power), N3 VCCIO1 (1.8 V, 2.5 V OR 3.3 V) (power), N12 VCCIO2 (1.8 V, 2.5 V OR 3.3 V) (power)
part T pins: A3 GNDIO (power), A7 GNDINT (power), A12 GNDIO (power), E1 GNDIO (power), E8 GNDINT (power), F5 GNDIO (power), F13 GNDIO (power), H1 GNDIO (power), H9 GNDIO (power), J7 GNDINT (power), J13 GNDIO (power), N2 GNDIO (power), N7 GNDINT (power), N11 GNDIO (power)
part A text: BANK A; BANK B
part B text: BANK C; BANK D
part C text: BANK E; BANK F
part D text: BANK G; BANK H
part E text: BANK I; BANK J
part F text: BANK K; BANK L
part G text: BANK M; BANK N
part H text: BANK O; BANK P
part I text: BANK Q; BANK R
part J text: BANK S; BANK T
part K text: BANK U; BANK V
part L text: BANK W; BANK X
part M text: BANK Y; BANK Z
part N text: BANK AA; BANK BB
part O text: BANK CC; BANK DD
part P text: BANK EE; BANK FF

## EPM7512BUC169-10
designator U?
Max 7000B 2.5V CPLD, 512 Macrocells, 169-Pin UFBGA, Speed Grade 10, Commercial Grade; Published: 17-Sep-2003; LatestRevisionDate: 13-Apr-2006; LatestRevisionNote: IPC-7351 Footprint Added.; DatasheetVersion: ver3.5, Sep-2005; PackageVersion: ver14.3, Jul-2006; PackageReference: UBGA169; Publisher: Altium Limited; PackageDescription: 169-Ball Ultra FineLine Ball Grid Array (UBGA169); Code_JEDEC: MO-216-BAF-1; ComponentLink1Description: Manufacturer Link; ComponentLink1URL: http://www.altera.com/products/devices/max7k/m7k-index.html; ComponentLink2Description: Datasheet; ComponentLink2URL: http://www.altera.com/literature/ds/m7000b.pdf; ComponentLink3Description: Packaging Specification; ComponentLink3URL: http://www.altera.com/literature/ds/dspkg.pdf
footprint UBGA169 (BGA, 169-Leads, Body 11x11mm, Pitch 0.8mm)
3D model EPM7512B-UBGA169 (169-Ball Ultra FineLine Ball Grid Array (UBGA169))
signal-integrity model 7kb (MAX 7000B)
part A pins: A5 IO (io), A6 IO (io), B5 IO (io), B6 IO (io), C6 IO (io), C7 IO (io), F6 IO (io)
part B pins: A4 IO (io), B3 IO (io), B4 IO (io), C3 IO (io), C4 IO (io), C5 IO (io), D5 IO (io)
part C pins: A1 IO (io), B1 IO (io), B2 IO (io), C1 IO (io), C2 IO (io), D1 IO (io), D2 IO (io), D3 IO (io), D4 IO (io), E2 IO (io)
part D pins: E3 IO (io), E5 IO (io), F2 IO (io), F3 IO (io), F4 IO (io), G1 IO (io), G2 IO (io)
part E pins: G3 IO (io), G5 IO (io), G6 IO (io), G7 IO (io), H2 IO (io), H3 IO (io), H4 IO (io), J2 IO (io)
part F pins: J3 IO (io), J5 IO (io), K1 IO (io), K2 IO (io), K3 IO (io), K4 IO (io), L1 IO (io), L2 IO (io)
part G pins: L3 IO (io), L4 IO (io), M1 IO (io), M2 IO (io), M3 IO (io), M4 IO (io), N1 IO (io), N4 IO (io), N5 IO (io)
part H pins: H6 IO (io), J6 IO (io), K5 IO (io), K6 IO (io), L5 IO (io), L6 IO (io), M5 IO (io), M6 IO (io), N6 IO (io)
part I pins: H8 IO (io), J8 IO (io), K7 IO (io), K8 IO (io), L7 IO (io), L8 IO (io), M8 IO (io), N8 IO (io)
part J pins: K9 IO (io), L9 IO (io), L10 IO (io), L11 IO (io), M9 IO (io), M10 IO (io), M11 IO (io), N9 IO (io), N10 IO (io), N13 IO (io)
part K pins: K10 IO (io), K11 IO (io), K12 IO (io), K13 IO (io), L12 IO (io), L13 IO (io), M12 IO (io), M13 IO (io)
part L pins: G10 IO (io), G11 IO (io), G12 IO (io), H11 IO (io), H12 IO (io), J9 IO (io), J11 IO (io), J12 IO (io)
part M pins: E11 IO (io), E12 IO (io), F10 IO (io), F11 IO (io), F12 IO (io), G8 IO (io), G9 IO (io), G13 IO (io)
part N pins: A13 IO (io), B13 IO (io), C12 IO (io), C13 IO (io), D10 IO (io), D11 IO (io), D12 IO (io), D13 IO (io), E9 IO (io)
part O pins: A10 IO (io), B10 IO (io), B11 IO (io), B12 IO (io), C10 IO (io), C11 IO (io)
part P pins: A8 IO (io), A9 IO (io), B8 IO (io), B9 IO (io), C8 IO (io), C9 IO (io), D9 IO (io), F7 IO (io), F8 IO (io)
part Q pins: D6 INPUT/GCLRn (in), D7 INPUT/OE1 (in), D8 INPUT/GCLK1 (in), E7 INPUT/OE2/GCLK2 (in)
part R pins: E4 TDI/IO (io), E10 TDO/IO (io), G4 IO/VREFA (io), H10 IO/VREFB (io), J4 TMS/IO (io), J10 TCK/IO (io)
part S pins: A2 VCCIO1 (1.8 V, 2.5 V OR 3.3 V) (power), A11 VCCIO2 (1.8 V, 2.5 V OR 3.3 V) (power), B7 VCCINT (2.5 V ONLY) (power), E6 VCCINT (2.5 V ONLY) (power), E13 VCCIO2 (1.8 V, 2.5 V OR 3.3 V) (power), F1 VCCIO1 (1.8 V, 2.5 V OR 3.3 V) (power), F9 VCCIO2 (1.8 V, 2.5 V OR 3.3 V) (power), H5 VCCIO1 (1.8 V, 2.5 V OR 3.3 V) (power), H7 VCCINT (2.5 V ONLY) (power), H13 VCCIO2 (1.8 V, 2.5 V OR 3.3 V) (power), J1 VCCIO1 (1.8 V, 2.5 V OR 3.3 V) (power), M7 VCCINT (2.5 V ONLY) (power), N3 VCCIO1 (1.8 V, 2.5 V OR 3.3 V) (power), N12 VCCIO2 (1.8 V, 2.5 V OR 3.3 V) (power)
part T pins: A3 GNDIO (power), A7 GNDINT (power), A12 GNDIO (power), E1 GNDIO (power), E8 GNDINT (power), F5 GNDIO (power), F13 GNDIO (power), H1 GNDIO (power), H9 GNDIO (power), J7 GNDINT (power), J13 GNDIO (power), N2 GNDIO (power), N7 GNDINT (power), N11 GNDIO (power)
part A text: BANK A; BANK B
part B text: BANK C; BANK D
part C text: BANK E; BANK F
part D text: BANK G; BANK H
part E text: BANK I; BANK J
part F text: BANK K; BANK L
part G text: BANK M; BANK N
part H text: BANK O; BANK P
part I text: BANK Q; BANK R
part J text: BANK S; BANK T
part K text: BANK U; BANK V
part L text: BANK W; BANK X
part M text: BANK Y; BANK Z
part N text: BANK AA; BANK BB
part O text: BANK CC; BANK DD
part P text: BANK EE; BANK FF